# EAGLE library part PIC18F14K50 (library Dmitry)
L6205* DMOS DUAL FULL BRIDGE DRIVER Cases: L6205N (PowerDIP20), L6205D (PowerSO20) Author: Dipl.-Ing. FH Rainer Bayer, rainer.bayer@hs-heilbronn.de, www.ing-rb.de/hhn Notes: 1. ENA, ENB pin direction "I/O": see data sheet (ENA and ENB pins open collector driving vs. push-pull driving) 2. SENSEA, SENSEB pin direction "PWR": see data sheet (power ground)
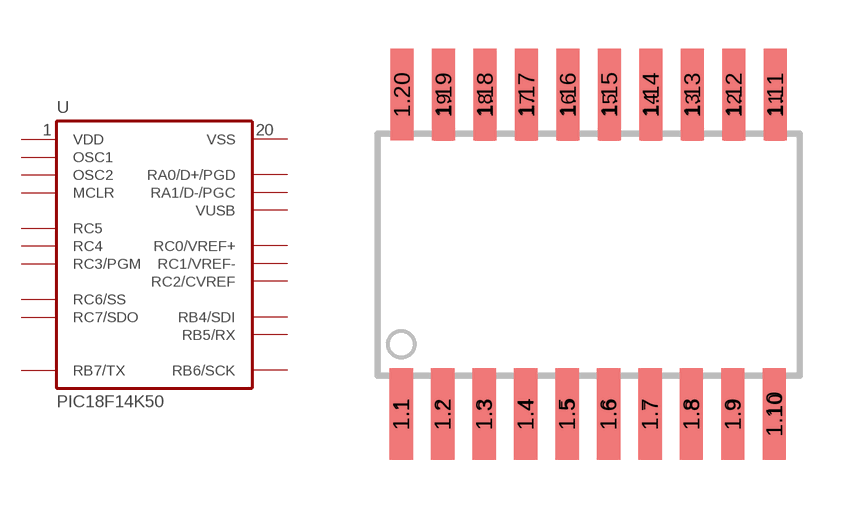
[diagram p7: symbol with the pads of SO20-DW; footprint SO20-DW]

Designator prefix U

## PIC18F14K50D  [SO20-DW]
1.1  VDD  pwr
1.2  OSC1  pwr
1.3  OSC2  pas
1.4  MCLR  pas
1.5  RC5  in
1.6  RC4  in
1.7  RC3/PGM
1.8  RC6/SS  in
1.9  RC7/SDO  in
1.10  RB7/TX
1.11  RB6/SCK  pwr
1.12  RB5/RX  out
1.13  RB4/SDI  out
1.14  RC2/CVREF  pwr
1.15  RC1/VREF-  out
1.16  RC0/VREF+  out
1.17  VUSB  pwr
1.18  RA1/D-/PGC  pwr
1.19  RA0/D+/PGD  pwr
1.20  VSS  pwr

## Footprint SO20-DW (pad centres in mm)
SO20 Wide (362.5 mil [distance between rows, pad-center])
smd 0.6 x 2.2: 1 -5.715,-4.6; 2 -4.445,-4.6; 3 -3.175,-4.6; 4 -1.905,-4.6; 5 -0.635,-4.6; 6 0.635,-4.6; 7 1.905,-4.6; 8 3.175,-4.6; 9 4.445,-4.6; 10 5.715,-4.6; 11 5.715,4.6; 12 4.445,4.6; 13 3.175,4.6; 14 1.905,4.6; 15 0.635,4.6; 16 -0.635,4.6; 17 -1.905,4.6; 18 -3.175,4.6; 19 -4.445,4.6
smd 0.711 x 2.794: 1.1 -5.74,-4.874; 1.2 -4.47,-4.874; 1.3 -3.2,-4.874; 1.4 -1.93,-4.874; 1.5 -0.66,-4.874; 1.6 0.61,-4.874; 1.7 1.88,-4.874; 1.8 3.15,-4.874; 1.9 4.42,-4.874; 1.10 5.69,-4.874; 1.11 5.715,4.905; 1.12 4.445,4.905; 1.13 3.175,4.905; 1.14 1.905,4.905; 1.15 0.635,4.905; 1.16 -0.635,4.905; 1.17 -1.905,4.905; 1.18 -3.175,4.905; 1.19 -4.445,4.905; 1.20 -5.715,4.905